# Altium footprint library Resistor.PcbLib: 31 footprints (part 1 of 2)
Each footprint in its own frame and in the unit in brackets; x right, y up, seen from the top. Pads: shape width x height; smd on the part's side, far side on the other; paste and mask are expansions set on the pad; w line width, h text height; cw(c..) or ccw(c..) is an arc to the next point about the centre after c.
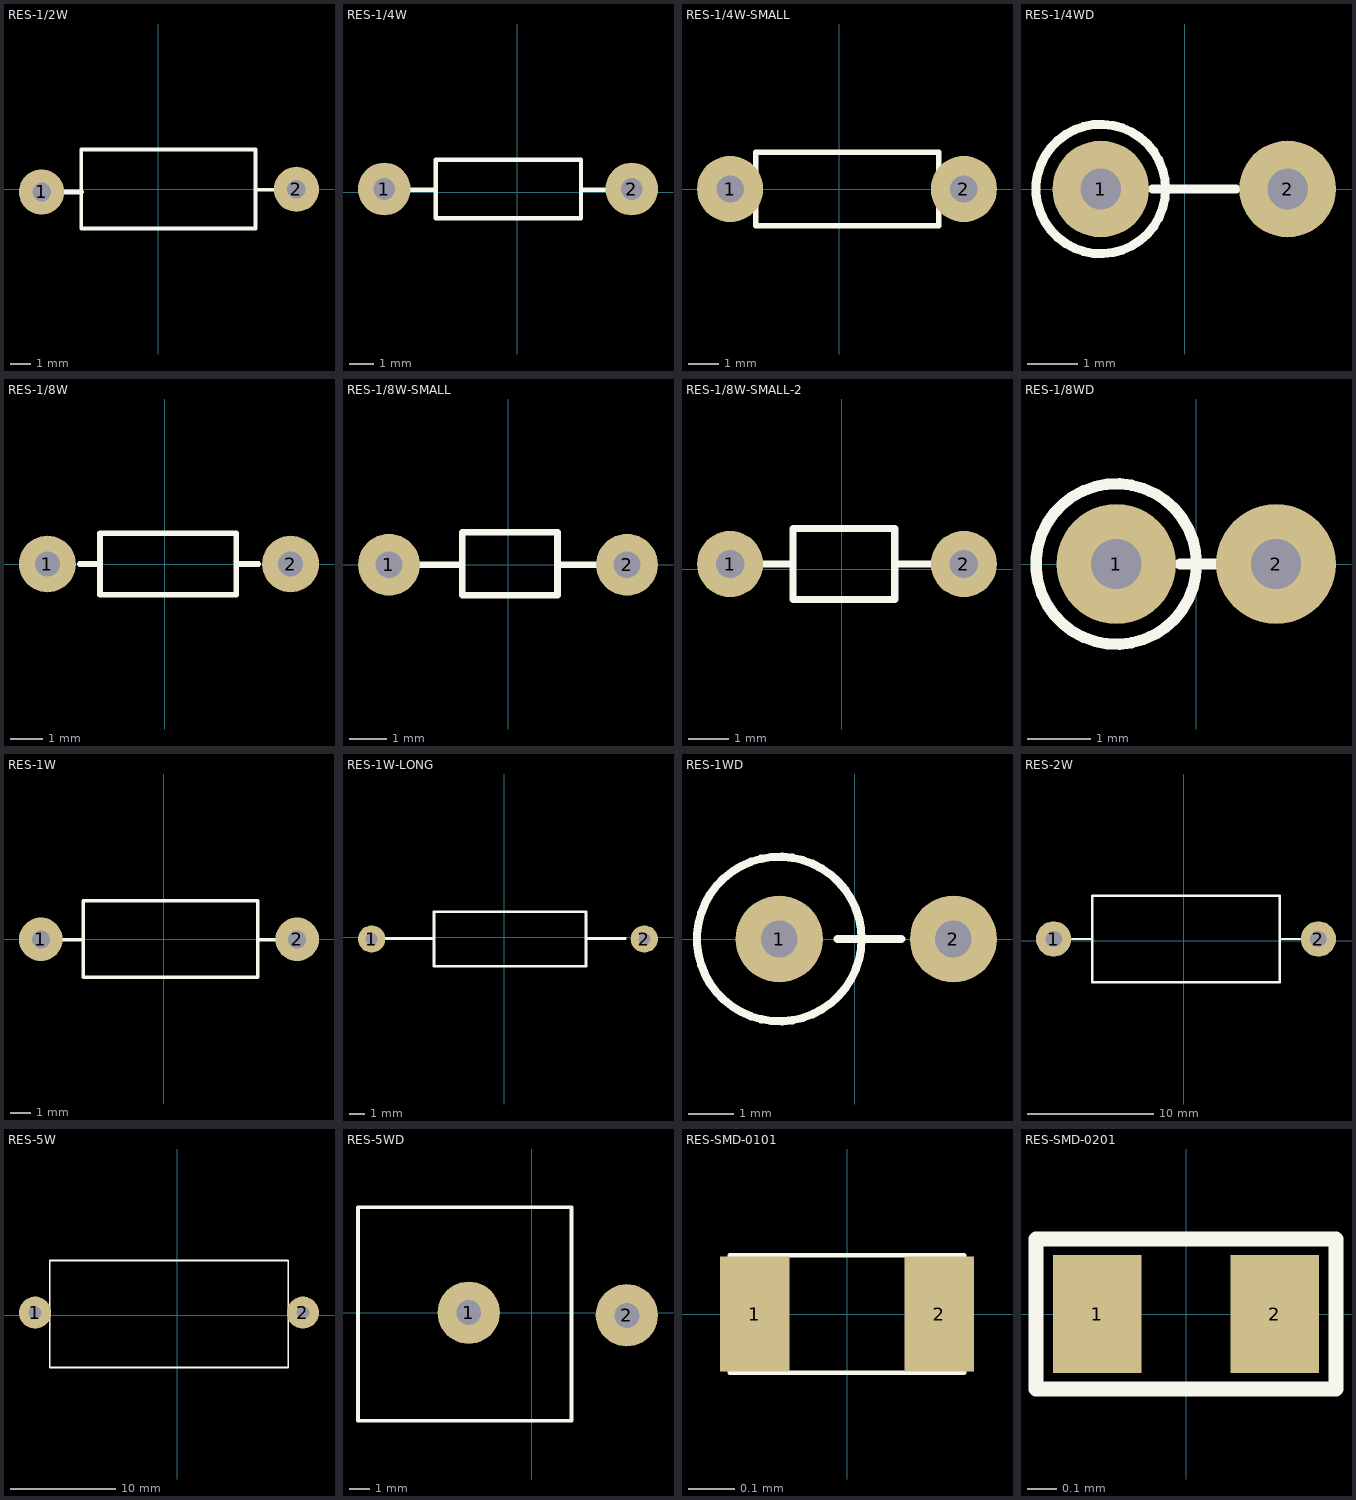
[diagram p0: the footprints below, top view; thin cyan lines are the x and y axes]

## RES-1/2W [mil]
height 100
pads (2):
  round 85 hole 35: 1(-220,-5) 2(260,0)
Top Overlay:
  lines w7: 183,-1 221,-1 ; -145,-73.81 -145,75 183,75 183,-73.81 -145,-73.81
  lines w10: -195,-5 -145,-5
3D body "User Library-Metal film resistor0_5W.step": height 121.06, standoff -118.11, extent -230,-60 270,56.14

## RES-1/4W [mil]
height 100
pads (2):
  round 85 hole 35: 1(-215,5) 2(185,5)
Top Overlay:
  lines w7: -173,4 -132,4 ; 103,4 141,4 ; -132,-42.24 -132,52.25 103,52.25 103,-42.24 -132,-42.24
3D body "User Library-Res40-Axial Short 0_25W-0_1R.step": height 95, standoff -78.74, extent -226.8,-42.24 196.82,52.25

## RES-1/4W-SMALL [mil]
height 100
pads (2):
  round 85 hole 35: 1(-140,0) 2(160,0)
Top Overlay:
  lines w7: -148,-1 -107,-1 ; 128,-1 166,-1 ; -107,-47.24 128,-47.24 128,47.25 -107,47.25 -107,-47.24
3D body "User Library-R-Axial-0_25W-7_62.step": height 97.4, standoff -146.85, extent -151.8,-47.39 171.82,47.4

## RES-1/4WD [mil]
height 100
pads (2):
  round 75 hole 31.5: 1(-65,0) 2(80,0)
Top Overlay:
  circle w7: c-65,0 r50.25
  lines w7: -25,0 40,0
3D body "User Library-RESAD375W60L650D230_0_25W.STEP": height 379.42, standoff -104.83, extent -112.36,-45 92.36,45.55

## RES-1/8W [mil]
height 100
pads (2):
  round 70 hole 31: 1(-145,0) 2(155,0)
Top Overlay:
  lines w7: -105,0 -80,0 ; 88,0 115,0 ; -80,-38 88,-38 88,38 -80,38 -80,-38
3D body "SW3DPS-RESISTOR 7_62MM DIP-DEFAULT.STEP": height 79.37, standoff -78.11, extent -154.45,-40 164.45,38.74

## RES-1/8W-SMALL [mil] "R 1/8W, 2 pin, 200mil"
height 100
pads (2):
  round 65 hole 28: 1(-125,0) 2(125,0)
Top Overlay:
  lines w7: -95,0 -48,0 ; 55,0 95,0 ; -48,-32 52,-32 52,34 -48,34 -48,-32
3D body "SW3dPS-Res_Normal (0.25W).STEP": height 76.31, standoff -78.11, extent -135,-35.48 135,37

## RES-1/8W-SMALL-2 [mil] "R 1/8W, 2 pin, 200mil"
height 100
pads (2):
  round 65 hole 28: 1(-110,5) 2(120,5)
Top Overlay:
  lines w7: -95,5 -48,5 ; 55,5 95,5 ; -48,-30 52,-30 52,40 -48,40 -48,-30
3D body "User Library-Res_1-8w_3_3.step": height 74.8, standoff -78.74, extent -120.98,-30 130.98,40.87

## RES-1/8WD [mm]
height 2.54
pads (2):
  round 1.905 hole 0.8: 1(-1.27,0) 2(1.27,0)
Top Overlay:
  circle w0.178: c-1.27,0 r1.276
  lines w0.178: -0.254,0 0.381,0
3D body "SW3dPS-Res_Stand.STEP": height 7.3, standoff -1.45, extent -2.159,-0.92 1.553,0.92

## RES-1W [mil]
height 100
pads (2):
  round 85 hole 35: 1(-240,0) 2(260,0)
Top Overlay:
  lines w7: -198,-1 -157,-1 ; 183,-1 221,-1 ; -157,-73.81 183,-73.81 183,75 -157,75 -157,-73.81
3D body "User Library-Res50-Axial 0_5W-3_3K.step": height 188.98, standoff -180.12, extent -254.76,-73.81 274.77,73.82

## RES-1W-LONG [mil]
height 100
pads (2):
  round 70 hole 31: 1(-340,-5) 2(360,-5)
Top Overlay:
  lines w7: -313,-4 -180,-4 ; 210,-4 311,-4 ; -180,-75 210,-75 210,65 -180,65 -180,-75
3D body "SW3dPS-Resistor 5-band.STEP": height 142, standoff -125, extent -335.75,-70 365.75,62

## RES-1WD [mil]
height 100
pads (2):
  round 75 hole 31.5: 1(-65,0) 2(85,0)
Top Overlay:
  circle w7: c-65,0 r70.87
  lines w7: -15,0 40,0
3D body "SW3DPS-0_5W METAL FILM RESISTOR-DEFAULT.STEP": height 498.19, standoff -198.66, extent -135,-66.92 105.16,66.93

## RES-2W [mil] "R2W, 2 pin, 700mil"
height 200
pads (2):
  round 110 hole 51.18: 1(-405,5) 2(420,5)
Top Overlay:
  lines w7: -355,5 -285,5 -285,140 300,140 300,-130 -285,-130 ; 300,5 375,5
  lines w7.87: -285,-130 -285,5
3D body "SW3dPS-AXIAL_RESISTOR(3W).STEP": height 276.77, standoff -128.74, extent -428.01,-126 446.01,133.84

## RES-5W [mil] "R5W , 2 pin, 400 x 950mil"
height 400
pads (2):
  round 120 hole 47.24: 1(-530,10) 2(470,10)
Top Overlay:
  lines w7: -475,-195 415,-195 415,205 -475,205 -475,-195
3D body "User Library-5W Resistor.STEP": height 362.6, standoff -98.43, extent -549.68,-185 489.69,196.89

## RES-5WD [mm] "R5W , 2 pin, 300 x 600 mil"
height 10.16
pads (2):
  round 3 hole 1.2: 1(-3.048,0) 2(4.572,-0.127)
Top Overlay:
  lines w0.178: -8.382,-5.207 1.905,-5.207 1.905,5.08 -8.382,5.08 -8.382,-5.207
3D body "SW3dPS-5W Res.STEP": height 23.05, standoff -2.4, extent -8.191,-5.047 4.889,4.953

## RES-SMD-0101 [mm]
pads (2):
  rect 0.15x0.25 smd: 1(-0.2,0) 2(0.2,0)
Top Overlay:
  lines w0.01: -0.254,-0.127 0.254,-0.127 0.254,0.127 -0.127,0.127 -0.254,0.127 -0.254,-0.127
3D body "User Library-SMD RESISTOR-1.step": height 0.12, standoff -0.02, extent -0.2,-0.1 0.2,0.1

## RES-SMD-0201 [mm]
pads (2):
  rect 0.3x0.4 smd: 1(-0.3,0) 2(0.3,0)
Top Overlay:
  lines w0.05: -0.508,-0.254 0.508,-0.254 0.508,0.254 -0.508,0.254 -0.508,-0.254
3D body "User Library-SMD RESISTOR-1 (1).step": height 0.22, standoff -0.02, extent -0.3,-0.15 0.3,0.15